# EAGLE library part LT1373 (library wheat)
IC, Boost reg, LT1373
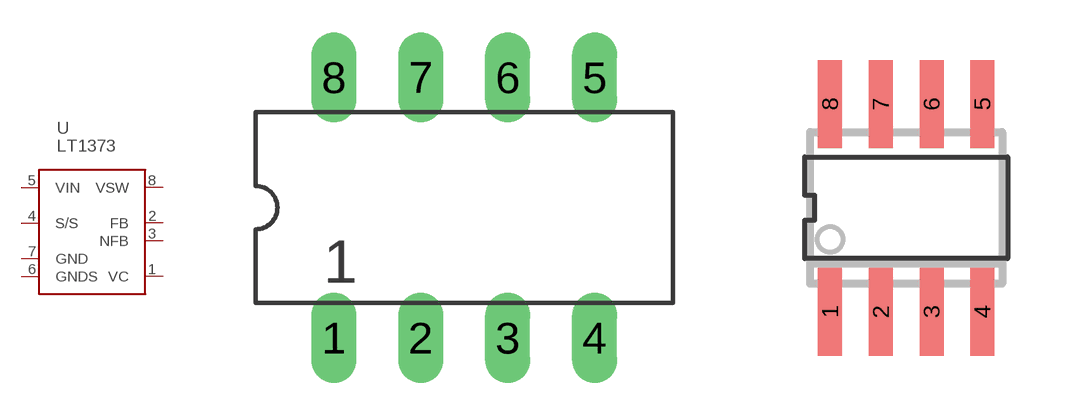
[diagram p136: symbol with the pads of DIP8; footprints DIP8, SO8]

Designator prefix U

## LT1373CN8  [DIP8]
1  VC  pas
2  FB  in
3  NFB  in
4  S/S  in
5  VIN  pas
6  GNDS  pas
7  GND  pas
8  VSW  out

## LT1373CS8  [SO8]
Pads as for DIP8

## Footprint DIP8 (pad centres in mm)
DIP8 .300 centers
drill 0.813 long: 1 0,0; 2 2.54,0; 3 5.08,0; 4 7.62,0; 5 7.62,7.62; 6 5.08,7.62; 7 2.54,7.62; 8 0,7.62

## Footprint SO8 (pad centres in mm)
SO8
smd 0.6 x 2.2: 1 -1.905,-2.6; 2 -0.635,-2.6; 3 0.635,-2.6; 4 1.905,-2.6; 5 1.905,2.6; 6 0.635,2.6; 7 -0.635,2.6; 8 -1.905,2.6